# EAGLE library part RT8299 (library pi3_hat)
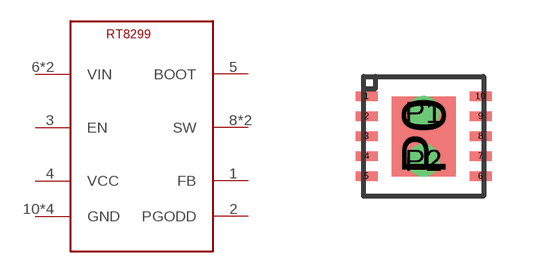
[diagram p2: symbol with the pads of 10L_DFN; footprint 10L_DFN]

Designator prefix -

## RT829910L_DFN (MF: Richtek; MPN: RT8299ZQW)  [10L_DFN]
1  FB
2  PGODD
3  EN
4  VCC
5  BOOT
6  VIN
7  VIN
8  SW
9  SW
10  GND
P0  GND
P1  GND
P2  GND

## Footprint 10L_DFN (pad centres in mm)
smd 0.55 x 0.23: 1 -1.425,1; 2 -1.425,0.5; 3 -1.425,0; 4 -1.425,-0.5; 5 -1.425,-1; 6 1.425,-1; 7 1.425,-0.5; 8 1.425,0; 9 1.425,0.5; 10 1.425,1
smd 1.6 x 2: P0 0,0
drill 0.305: P1 0,0.6; P2 0,-0.6